# Altium footprint library PcbLib1.PcbLib: 10 footprints
Each footprint in its own frame and in the unit in brackets; x right, y up, seen from the top. Pads: shape width x height; smd on the part's side, far side on the other; paste and mask are expansions set on the pad; w line width, h text height; cw(c..) or ccw(c..) is an arc to the next point about the centre after c.
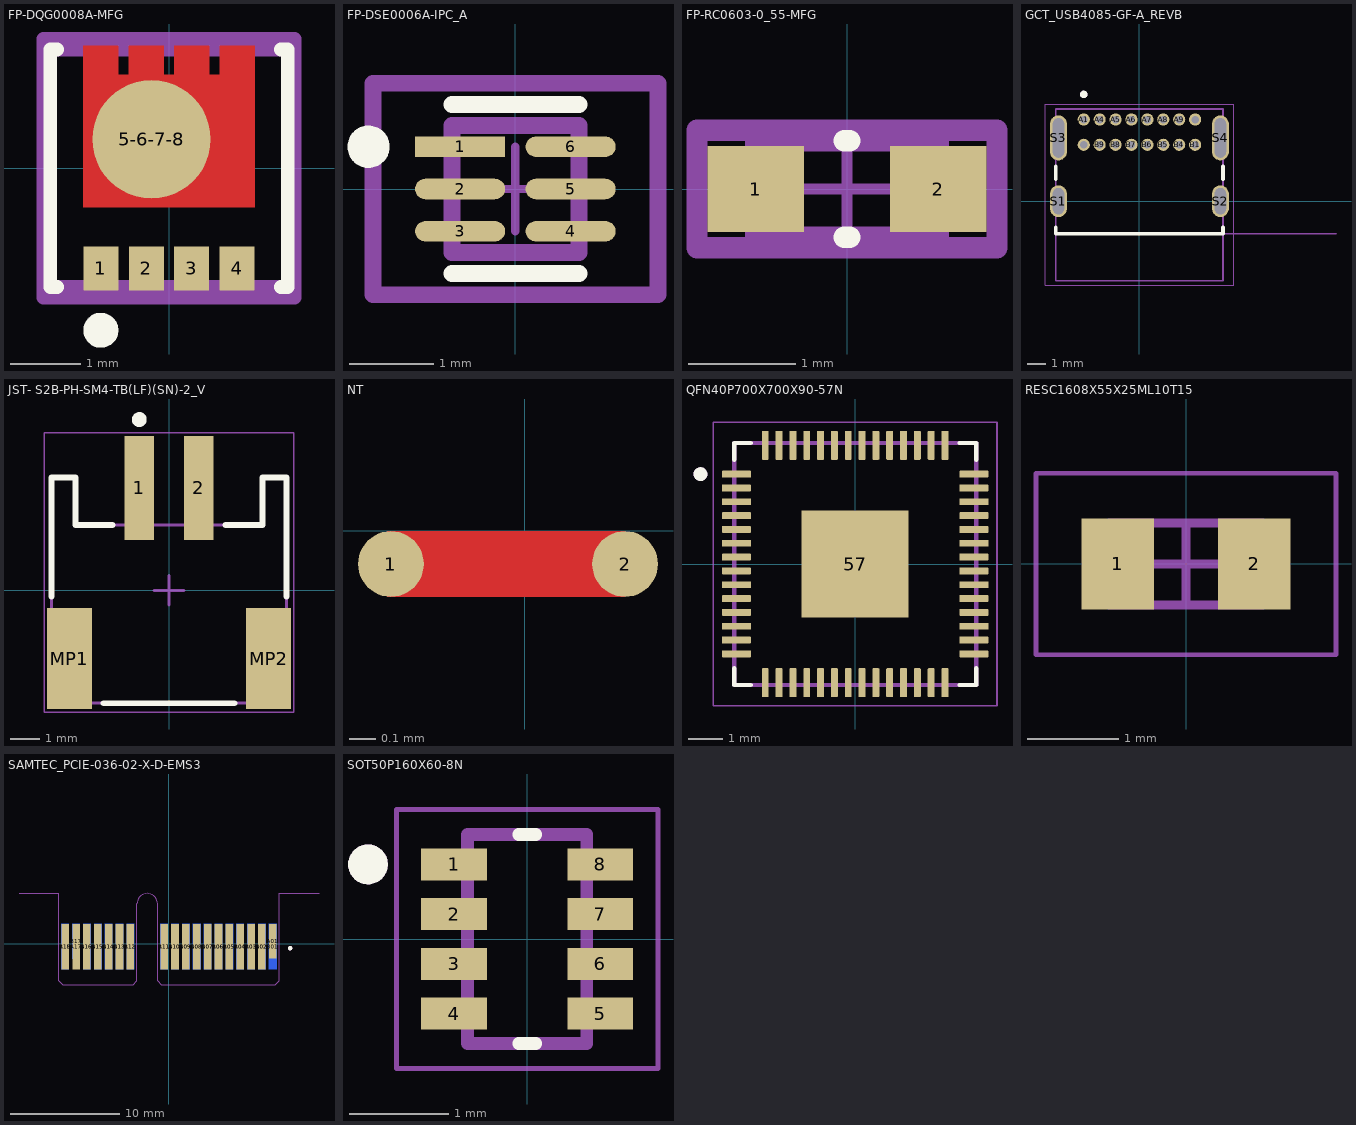
[diagram p0: the footprints below, top view; thin cyan lines are the x and y axes]

## FP-DQG0008A-MFG [mm]
pads (5):
  rect 0.5x0.63 smd paste-1000 mask+0: 1(-0.975,-1.435) 2(-0.325,-1.435) 3(0.325,-1.435) 4(0.975,-1.435)
  round 1.696 smd paste-1000 mask+0: 5-6-7-8(-0.25,0.415)
Top Layer:
  region: -1.225,-0.56 1.225,-0.56 1.225,1.75 0.725,1.75 0.725,1.34 0.575,1.34 0.575,1.75 0.075,1.75 0.075,1.34 -0.075,1.34 -0.075,1.75 -0.575,1.75 -0.575,1.34 -0.725,1.34 -0.725,1.75 -1.225,1.75
Top Overlay:
  circle w0.25: c-0.975,-2.32 r0.125
  lines w0.2: -1.6,-1.7 -1.7,-1.7 -1.7,1.7 -1.6,1.7 ; 1.6,-1.7 1.7,-1.7 1.7,1.7 1.6,1.7
Top Paste:
  rectangle: 0.805,1.21 1.145,1.66
  rectangle: 0.155,1.21 0.495,1.66
  rectangle: -0.495,1.21 -0.155,1.66
  rectangle: -1.145,1.21 -0.805,1.66
  rectangle: 0.125,-0.46 1.145,0.985
  rectangle: -1.145,-0.46 -0.125,0.985
  rectangle: 0.805,-1.66 1.145,-1.21
  rectangle: 0.155,-1.66 0.495,-1.21
  rectangle: -0.495,-1.66 -0.155,-1.21
  rectangle: -1.145,-1.66 -0.805,-1.21
Top 3D Body:
  lines w0.2: -1.7,-1.7 -1.7,1.7 1.7,1.7 1.7,-1.7 -1.7,-1.7
Top Courtyard:
  lines w0.2: -1.8,-1.85 -1.8,1.85 1.8,1.85 1.8,-1.85 -1.8,-1.85
Top Assembly:
  lines w0.2: -1.8,-1.85 -1.8,1.85 1.8,1.85 1.8,-1.85 -1.8,-1.85
  text ".Designator" at 0,0.188 h1
Top Component Center:
  lines w0.1: -0.5,0 0.5,0 ; 0,-0.5 0,0.5
3D body "Trans_Texas_Instruments_CSD17575Q3_eec.STEP": height 0.25, standoff 0, extent -1.8,-1.85 1.8,1.85

## FP-DSE0006A-IPC_A [mm]
pads (6):
  rect 1.065x0.242 smd paste+0 mask+0: 1(-0.654,0.5)
  rrect100% 1.065x0.242 smd paste+0 mask+0: 2(-0.654,0) 3(-0.654,-0.5) 4(0.654,-0.5) 5(0.654,0) 6(0.654,0.5)
Top Overlay:
  circle w0.25: c-1.736,0.5 r0.125
  lines w0.2: -0.75,-1 0.75,-1 ; -0.75,1 0.75,1
Top 3D Body:
  lines w0.2: -0.75,-0.75 -0.75,0.75 0.75,0.75 0.75,-0.75 -0.75,-0.75
Top Courtyard:
  lines w0.2: -1.686,-1.25 -1.686,1.25 1.686,1.25 1.686,-1.25 -1.686,-1.25
Top Assembly:
  lines w0.2: -1.686,-1.25 -1.686,1.25 1.686,1.25 1.686,-1.25 -1.686,-1.25
  text ".Designator" at 0,0.188 h1
Top Component Center:
  lines w0.1: -0.5,0 0.5,0 ; 0,-0.5 0,0.5
3D body "IC_Texas_Instruments_BQ29700DSET_eec.STEP": height 0.25, standoff 0, extent -1.686,-1.25 1.686,1.25

## FP-RC0603-0_55-MFG [mm]
pads (2):
  rect 0.9x0.8 smd paste+0 mask+0: 1(-0.85,0) 2(0.85,0)
Top Overlay:
  lines w0.2: -0.025,-0.45 0.025,-0.45 ; -0.025,0.45 0.025,0.45
Top 3D Body:
  lines w0.2: -0.85,-0.45 0.85,-0.45 0.85,0.45 -0.85,0.45 -0.85,-0.45
Top Courtyard:
  lines w0.2: -1.4,-0.55 1.4,-0.55 1.4,0.55 -1.4,0.55 -1.4,-0.55
Top Assembly:
  lines w0.2: -1.4,-0.55 1.4,-0.55 1.4,0.55 -1.4,0.55 -1.4,-0.55
  text ".Designator" at 0,0.188 h1
Top Component Center:
  lines w0.1: -0.5,0 0.5,0 ; 0,-0.5 0,0.5
3D body "Res_Yageo_RC0603FR-07100KL_eec.STEP": height 0.25, standoff 0, extent -1.4,-0.55 1.4,0.55

## GCT_USB4085-GF-A_REVB [mm]
height 3.16
pads (20):
  round 0.65 hole 0.4: A1(-2.975,4.36) A4(-2.125,4.36) A5(-1.275,4.36) A6(-0.425,4.36) A7(0.425,4.36) A8(1.275,4.36) A9(2.125,4.36) A12(2.975,4.36) B1(2.975,3.01) B4(2.125,3.01) B5(1.275,3.01) B6(0.425,3.01) B7(-0.425,3.01) B8(-1.275,3.01) B9(-2.125,3.01) B12(-2.975,3.01)
  oval 0.9x1.7 hole 0.6 slot 1.4 at 90 deg: S1(-4.325,0) S2(4.325,0)
  oval 0.9x2.4 hole 0.6 slot 2.1 at 90 deg: S3(-4.325,3.38) S4(4.325,3.38)
Top Overlay:
  circle w0.2: c-2.975,5.7 r0.1
  lines w0.2: -4.47,-1.39 -4.47,-1.74 4.47,-1.74 4.47,-1.39 ; -4.47,1.17 -4.47,1.85 ; 4.47,1.17 4.47,1.85
Mechanical 13:
  circle w0.2: c-2.975,5.7 r0.1
  lines w0.1: 10.5,-1.74 -4.47,-1.74 ; -4.47,-1.74 -4.47,4.92 4.47,4.92 4.47,-4.25 -4.47,-4.25 -4.47,-1.74
  text "PCB EDGE" at 5.315,-1.57 h0.81
Mechanical 15:
  lines w0.05: -5.025,-4.5 -5.025,5.17 5.025,5.17 5.025,-4.5 -5.025,-4.5
3D body "step_temp.STEP": height 3.46, standoff -2.1, extent -4.47,-4.25 4.47,4.92

## JST- S2B-PH-SM4-TB(LF)(SN)-2_V [mm] "SMD, 2-Leads, Body 7.9x7.6mm, Pitch 2mm"
height 5.5
pads (4):
  rect 1x3.5 smd: 1(-1,3.45) 2(1,3.45)
  rect 1.5x3.4 smd: MP1(-3.35,-2.3) MP2(3.35,-2.3)
Top Overlay:
  circle w0.25: c-1,5.75 r0.125
  lines w0.2: -3.95,-0.2 -3.95,3.8 -3.15,3.8 -3.15,2.2 -1.9,2.2 ; -2.2,-3.8 2.2,-3.8 ; 1.9,2.2 3.15,2.2 3.15,3.8 3.95,3.8 3.95,-0.2
Mechanical 13:
  lines w0.1: -3.95,-3 -3.95,3.8 -3.15,3.8 -3.15,2.2 3.15,2.2 3.15,3.8 3.95,3.8 3.95,-3 3.45,-3 3.45,-3.8 -3.45,-3.8 -3.45,-3 -3.95,-3
Mechanical 15:
  lines w0.05: -4.2,-4.1 4.2,-4.1 4.2,5.3 -4.2,5.3 -4.2,-4.1
  lines w0.1: -0.5,0 0.5,0 ; 0,-0.5 0,0.5
3D body "S2B-PH-SM4-TB.STEP": height 5.6, standoff 0, extent -3.95,-3.8 3.95,4.8

## NT [mm]
pads (2):
  round 0.25 smd mask-10: 1(-0.508,-0.127) 2(0.381,-0.127)
Top Layer:
  rectangle: -0.523,-0.252 0.381,-0.002

## QFN40P700X700X90-57N [mm] "rp2040"
height 0.9
pads (57):
  rrect25% 0.84x0.2 smd mask+0.05: 1(-3.435,2.6) 2(-3.435,2.2) 3(-3.435,1.8) 4(-3.435,1.4) 5(-3.435,1) 6(-3.435,0.6) 7(-3.435,0.2) 8(-3.435,-0.2) 9(-3.435,-0.6) 10(-3.435,-1) 11(-3.435,-1.4) 12(-3.435,-1.8) 13(-3.435,-2.2) 14(-3.435,-2.6) 29(3.435,-2.6) 30(3.435,-2.2) 31(3.435,-1.8) 32(3.435,-1.4) 33(3.435,-1) 34(3.435,-0.6) 35(3.435,-0.2) 36(3.435,0.2) 37(3.435,0.6) 38(3.435,1) 39(3.435,1.4) 40(3.435,1.8) 41(3.435,2.2) 42(3.435,2.6)
  rrect25% 0.2x0.84 smd mask+0.05: 15(-2.6,-3.435) 16(-2.2,-3.435) 17(-1.8,-3.435) 18(-1.4,-3.435) 19(-1,-3.435) 20(-0.6,-3.435) 21(-0.2,-3.435) 22(0.2,-3.435) 23(0.6,-3.435) 24(1,-3.435) 25(1.4,-3.435) 26(1.8,-3.435) 27(2.2,-3.435) 28(2.6,-3.435) 43(2.6,3.435) 44(2.2,3.435) 45(1.8,3.435) 46(1.4,3.435) 47(1,3.435) 48(0.6,3.435) 49(0.2,3.435) 50(-0.2,3.435) 51(-0.6,3.435) 52(-1,3.435) 53(-1.4,3.435) 54(-1.8,3.435) 55(-2.2,3.435) 56(-2.6,3.435)
  rect 3.1x3.1 smd paste-0.57 mask+0.05: 57(0,0)
Top Overlay:
  circle w0.2: c-4.475,2.6 r0.1
  lines w0.127: -3.5,-3.02 -3.5,-3.5 -3.02,-3.5 ; -3.5,3.02 -3.5,3.5 -3.02,3.5 ; 3.02,-3.5 3.5,-3.5 3.5,-3.02 ; 3.02,3.5 3.5,3.5 3.5,3.02
Mechanical 13:
  circle w0.2: c-4.475,2.6 r0.1
  lines w0.127: -3.5,-3.5 3.5,-3.5 3.5,3.5 -3.5,3.5 -3.5,-3.5
Mechanical 15:
  lines w0.05: -4.105,-4.105 4.105,-4.105 4.105,4.105 -4.105,4.105 -4.105,-4.105
3D body "QFN56_7X7_RPI.step": height 0.89, standoff 0, extent -3.505,-3.505 3.505,3.505

## RESC1608X55X25ML10T15 [mm] "Chip Resistor, 2-Leads, Body 1.70x0.90mm, IPC Low Density"
height 0.55
pads (2):
  rect 0.8x1 smd: 1(-0.75,0) 2(0.75,0)
Mechanical 13:
  lines w0.1: -0.85,-0.45 -0.85,0.45 0.85,0.45 0.85,-0.45 -0.85,-0.45
Mechanical 15:
  lines w0.05: -1.65,-1 -1.65,1 1.65,1 1.65,-1 -1.65,-1
  lines w0.1: -0.45,0 0.45,0 ; 0,-0.45 0,0.45
3D body: height 0.55, standoff 0, extent -0.6,-0.45 0.6,0.45
3D body: height 0.55, standoff 0, extent -0.85,-0.45 -0.6,0.45
3D body: height 0.55, standoff 0, extent 0.6,-0.45 0.85,0.45

## SAMTEC_PCIE-036-02-X-D-EMS3 [mm]
pads (36):
  rect 0.7x3.2 smd: A01(9.55,0.25)
  rect 0.7x4.2 smd: A02(8.55,-0.25) A03(7.55,-0.25) A04(6.55,-0.25) A05(5.55,-0.25) A06(4.55,-0.25) A07(3.55,-0.25) A08(2.55,-0.25) A09(1.55,-0.25) A10(0.55,-0.25) A11(-0.45,-0.25) A12(-3.55,-0.25) A13(-4.55,-0.25) A14(-5.55,-0.25) A15(-6.55,-0.25) A16(-7.55,-0.25) A17(-8.55,-0.25) A18(-9.55,-0.25)
  rect 0.7x4.2 smd far side: B01(9.55,-0.25) B02(8.55,-0.25) B03(7.55,-0.25) B04(6.55,-0.25) B05(5.55,-0.25) B06(4.55,-0.25) B07(3.55,-0.25) B08(2.55,-0.25) B09(1.55,-0.25) B10(0.55,-0.25) B11(-0.45,-0.25) B12(-3.55,-0.25) B13(-4.55,-0.25) B14(-5.55,-0.25) B15(-6.55,-0.25) B16(-7.55,-0.25) B18(-9.55,-0.25)
  rect 0.7x3.2 smd far side: B17(-8.55,0.25)
Top Overlay:
  circle w0.2: c11.15,-0.4 r0.1
Mechanical 1:
  lines w0.1: -13.8,4.65 -10.15,4.65 -10.15,-3.396 -9.796,-3.75 -3.304,-3.75 -2.95,-3.396 -2.95,3.7 ; -2.95,3.687 cw(c-2,3.687) -1.05,3.7 -1.05,-3.396 -0.695,-3.75 9.795,-3.75 10.15,-3.396 10.15,4.65 13.8,4.65
Mechanical 13:
  circle w0.2: c11.15,-0.4 r0.1

## SOT50P160X60-8N [mm]
height 0.6
pads (8):
  rect 0.66x0.32 smd mask+0.05: 1(-0.735,0.75) 2(-0.735,0.25) 3(-0.735,-0.25) 4(-0.735,-0.75) 5(0.735,-0.75) 6(0.735,-0.25) 7(0.735,0.25) 8(0.735,0.75)
Top Overlay:
  circle w0.2: c-1.6,0.75 r0.1
  lines w0.127: -0.085,-1.05 0.085,-1.05 ; -0.085,1.05 0.085,1.05
Mechanical 13:
  circle w0.2: c-1.6,0.75 r0.1
  lines w0.127: -0.6,-1.05 -0.6,1.05 0.6,1.05 0.6,-1.05 -0.6,-1.05
Mechanical 15:
  lines w0.05: -1.315,-1.3 -1.315,1.3 1.315,1.3 1.315,-1.3 -1.315,-1.3
3D body "step_temp.STEP": height 0.6, standoff 0, extent -0.8,-1.05 0.8,1.05